# EAGLE library part 662104231722 (library 662104231722)
WR-MPC3 Micro Power Connectors 3.00 mm SMT Dual Row Male Header Right Angled with SMT Solder Tabs - Tin Plating - Glow-Wire, 04 Pins Source: Datasheet <https://www.we-online.com/components/products/download/3D_662104231722 (rev1).pdf>
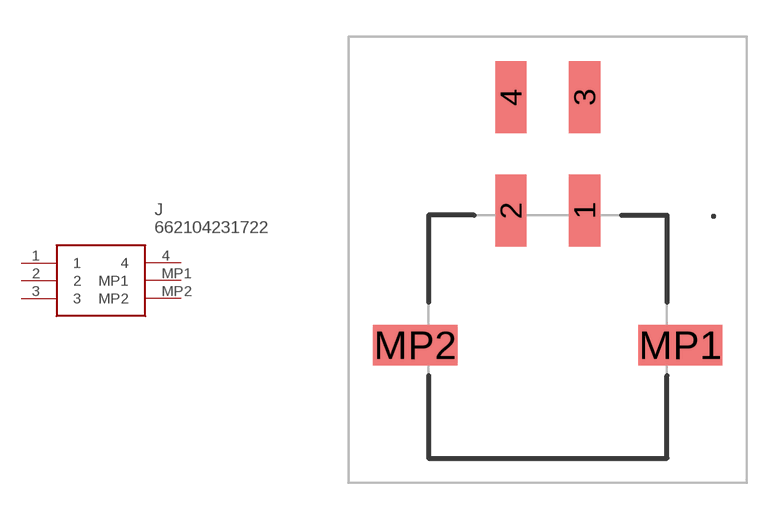
[diagram p0: symbol with the pads of 662104231722; footprint 662104231722]

Designator prefix J

## 662104231722 (Description: WR-MPC3 Micro Power Connectors 3.00 mm SMT Dual Row Male Header Right Angled with SMT Solder Tabs - Tin Plating - Glow-Wire, 04 Pins; Height: 8.91mm; Manufacturer_Name: Wurth Elektronik; Manufacturer_Part_Number: 662104231722)  [662104231722]
1  1
2  2
3  3
4  4
MP1  MP1
MP2  MP2

## Footprint 662104231722 (pad centres in mm)
662104231722-2
smd 1.27 x 2.92: 1 1.5,2.73; 2 -1.5,2.73; 3 1.5,7.35; 4 -1.5,7.35
smd 3.43 x 1.65: MP1 5.395,-2.75; MP2 -5.395,-2.75